# Altium footprint library TL084CN.PcbLib: 1 footprints
Each footprint in its own frame and in the unit in brackets; x right, y up, seen from the top. Pads: shape width x height; smd on the part's side, far side on the other; paste and mask are expansions set on the pad; w line width, h text height; cw(c..) or ccw(c..) is an arc to the next point about the centre after c.
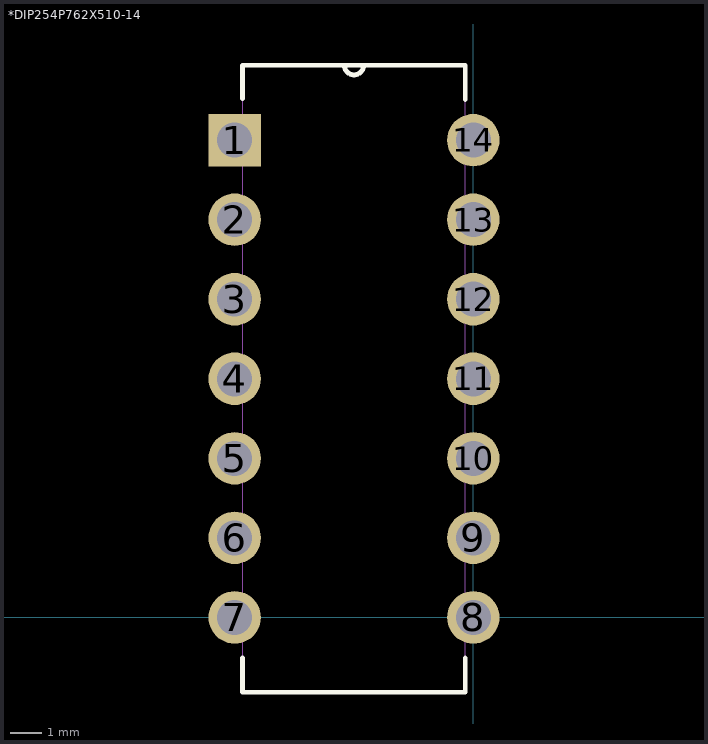
[diagram p0: the footprint, top view; thin cyan lines are the x and y axes]

## *DIP254P762X510-14 [mil]
pads (14):
  rect 66x66 hole 44: 1(-300,600)
  round 66 hole 44: 2(-300,500) 3(-300,400) 4(-300,300) 5(-300,200) 6(-300,100) 7(-300,0) 8(0,0) 9(0,100) 10(0,200) 11(0,300) 12(0,400) 13(0,500) 14(0,600)
Top Overlay:
  lines w6: -290,-51 -290,-94 -10,-94 -10,-51 ; -290,652 -290,694 -162,694 ; -10,651 -10,694 -138,694 ; -162,694 ccw(c-150,694) -138,694 ; -162,694 -138,694
Mechanical 4:
  lines w0: -322,-22 -290,-22 ; -322,-22 -322,22 ; -322,-22 -290,-22 ; -322,-22 -322,22 ; -322,22 -290,22 ; -322,22 -290,22 ; -322,78 -290,78 ; -322,78 -322,122 ; -322,78 -290,78 ; -322,78 -322,122 ; -322,122 -290,122 ; -322,122 -290,122 ; -322,178 -290,178 ; -322,178 -322,222 ; -322,178 -290,178 ; -322,178 -322,222 ; -322,222 -290,222 ; -322,222 -290,222 ; -322,278 -290,278 ; -322,278 -322,322 ; -322,278 -290,278 ; -322,278 -322,322 ; -322,322 -290,322 ; -322,322 -290,322 ; -322,378 -290,378 ; -322,378 -322,422 ; -322,378 -290,378 ; -322,378 -322,422 ; -322,422 -290,422 ; -322,422 -290,422 ; -322,478 -290,478 ; -322,478 -322,522 ; -322,478 -290,478 ; -322,478 -322,522 ; -322,522 -290,522 ; -322,522 -290,522 ; -322,578 -290,578 ; -322,578 -322,622 ; -322,578 -290,578 ; -322,578 -322,622 ; -322,622 -290,622 ; -322,622 -290,622 ; -290,-94 -290,694 ; -290,-94 -10,-94 ; -290,-94 -290,694 ; -290,-94 -10,-94 ; -290,-22 -290,22 ; -290,-22 -290,22 ; -290,78 -290,122 ; -290,78 -290,122 ; -290,178 -290,222 ; -290,178 -290,222 ; -290,278 -290,322 ; -290,278 -290,322 ; -290,378 -290,422 ; -290,378 -290,422 ; -290,478 -290,522 ; -290,478 -290,522 ; -290,578 -290,622 ; -290,578 -290,622 ; -290,694 -162,694 ; -290,694 -162,694 ; -162,694 ccw(c-150,694) -138,694 ; -162,694 ccw(c-150,694) -138,694 ; -162,694 -138,694 ; -162,694 -138,694 ; -138,694 -10,694 ; -138,694 -10,694 ; -10,-94 -10,694 ; -10,-94 -10,694 ; -10,-22 22,-22 ; -10,-22 -10,22 ; -10,-22 22,-22 ; -10,-22 -10,22 ; -10,22 22,22 ; -10,22 22,22 ; -10,78 22,78 ; -10,78 -10,122 ; -10,78 22,78 ; -10,78 -10,122 ; -10,122 22,122 ; -10,122 22,122 ; -10,178 22,178 ; -10,178 -10,222 ; -10,178 22,178 ; -10,178 -10,222 ; -10,222 22,222 ; -10,222 22,222 ; -10,278 22,278 ; -10,278 -10,322 ; -10,278 22,278 ; -10,278 -10,322 ; -10,322 22,322 ; -10,322 22,322 ; -10,378 22,378 ; -10,378 -10,422 ; -10,378 22,378 ; -10,378 -10,422 ; -10,422 22,422 ; -10,422 22,422 ; -10,478 22,478 ; -10,478 -10,522 ; -10,478 22,478 ; -10,478 -10,522 ; -10,522 22,522 ; -10,522 22,522 ; -10,578 22,578 ; -10,578 -10,622 ; -10,578 22,578 ; -10,578 -10,622 ; -10,622 22,622 ; -10,622 22,622 ; 22,-22 22,22 ; 22,-22 22,22 ; 22,78 22,122 ; 22,78 22,122 ; 22,178 22,222 ; 22,178 22,222 ; 22,278 22,322 ; 22,278 22,322 ; 22,378 22,422 ; 22,378 22,422 ; 22,478 22,522 ; 22,478 22,522 ; 22,578 22,622 ; 22,578 22,622